# EAGLE library part MAX30102 (library GIX)
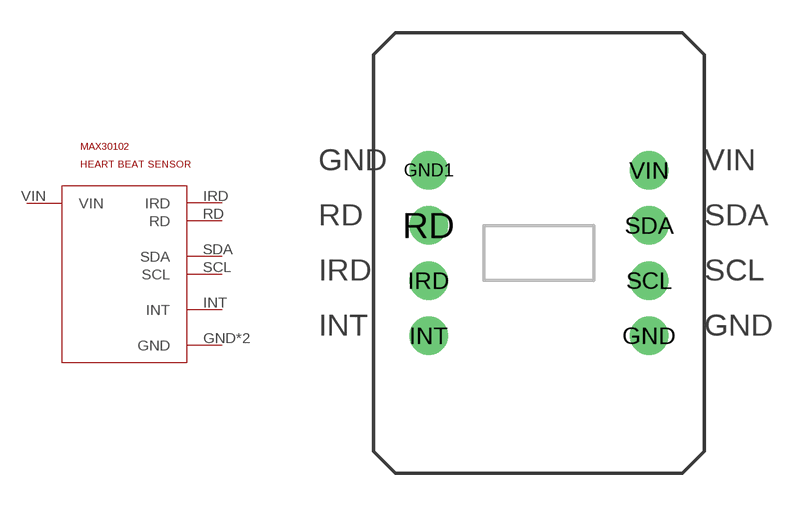
[diagram p7: symbol with the pads of MAX30102; footprint MAX30102]

Designator prefix -

## MAX30102  [MAX30102]
GND  GND
GND1  GND
INT  INT
IRD  IRD
RD  RD
SCL  SCL
SDA  SDA
VIN  VIN

## Footprint MAX30102 (pad centres in mm)
drill 1.016 pad 1.778: GND 5.08,-3.81; GND1 -5.08,3.81; INT -5.08,-3.81; IRD -5.08,-1.27; RD -5.08,1.27; SCL 5.08,-1.27; SDA 5.08,1.27; VIN 5.08,3.81